# Altium footprint library SK12D07VG4.PcbLib: 1 footprints
Each footprint in its own frame and in the unit in brackets; x right, y up, seen from the top. Pads: shape width x height; smd on the part's side, far side on the other; paste and mask are expansions set on the pad; w line width, h text height; cw(c..) or ccw(c..) is an arc to the next point about the centre after c.
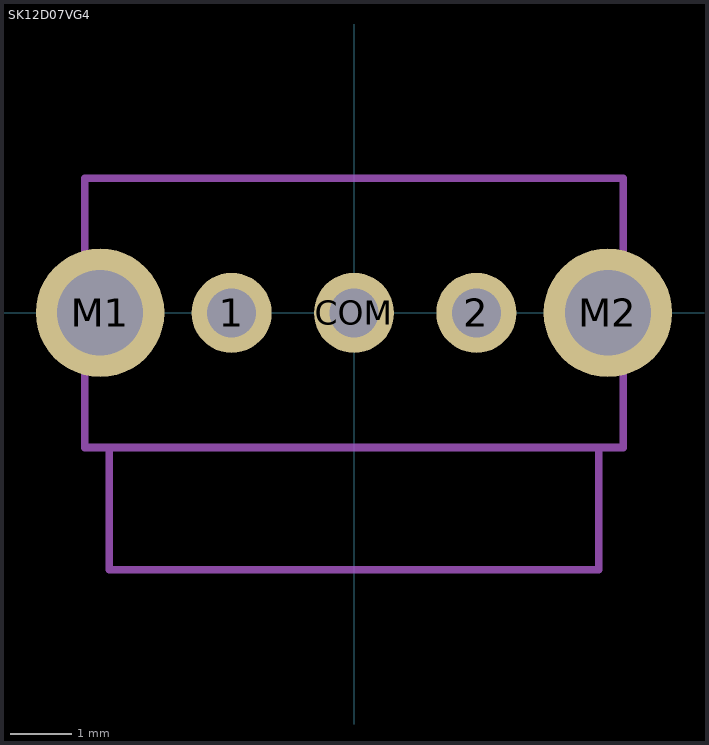
[diagram p0: the footprint, top view; thin cyan lines are the x and y axes]

## SK12D07VG4 [mm]
pads (5):
  round 1.308 hole 0.8: 1(-2,0) 2(2,0) COM(0,0)
  round 2.1 hole 1.4: M1(-4.15,0) M2(4.15,0)
Milling Layer:
  lines w0.127: -4,-2.2 4,-2.2 ; -4,-2.2 -4.4,-2.2 -4.4,2.2 4.4,2.2 4.4,-2.2 4,-2.2 ; -4,-2.2 -4,-4.2 4,-4.2 4,-2.2
3D body "step_temp.STEP": height 4.7, standoff -3.3, extent -4.3,-6.15 4.3,2.15